# Altium footprint library TE_1888292-5.PcbLib: 1 footprints
Each footprint in its own frame and in the unit in brackets; x right, y up, seen from the top. Pads: shape width x height; smd on the part's side, far side on the other; paste and mask are expansions set on the pad; w line width, h text height; cw(c..) or ccw(c..) is an arc to the next point about the centre after c.
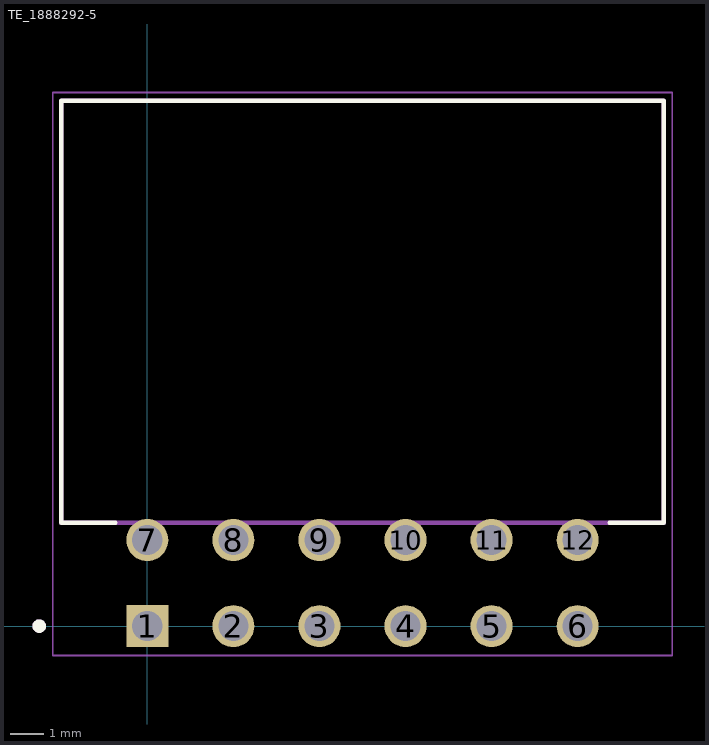
[diagram p0: the footprint, top view; thin cyan lines are the x and y axes]

## TE_1888292-5 [mm]
pads (12):
  rect 1.24x1.24 hole 0.89: 1(0,0)
  round 1.24 hole 0.89: 2(2.54,0) 3(5.08,0) 4(7.62,0) 5(10.16,0) 6(12.7,0) 7(0,2.54) 8(2.54,2.54) 9(5.08,2.54) 10(7.62,2.54) 11(10.16,2.54) 12(12.7,2.54)
Top Overlay:
  circle w0.2: c-3.19,0 r0.1
  lines w0.127: -0.94,3.05 -2.54,3.05 -2.54,15.5 15.24,15.5 15.24,3.05 13.64,3.05
Mechanical 13:
  circle w0.2: c-3.19,0 r0.1
  lines w0.127: -2.54,3.05 -2.54,15.5 ; -2.54,3.05 15.24,3.05 ; -2.54,3.05 -2.54,15.5 ; -2.54,15.5 15.24,15.5 ; -2.54,15.5 15.24,15.5 ; 15.24,3.05 15.24,15.5 ; 15.24,3.05 15.24,15.5
Mechanical 15:
  lines w0.05: -2.79,-0.87 15.49,-0.87 15.49,15.75 -2.79,15.75 -2.79,-0.87
3D body "1888292-5.stp": height 10.74, standoff -2.54, extent -2.54,-0.445 15.24,15.367